# Altium integrated library C1210C103F5GACTU.IntLib: 1 symbol
Pins are listed as number, name and electrical type; pins without a type are passive.

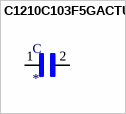
[diagram p0: symbol C1210C103F5GACTU]

## C1210C103F5GACTU
designator C
CAP, CERAMIC, 0.01UF, 50V, C0G / NP01%, 1210; Capacitance: 0.01ÂµF; Capacitance To; MP: C1210C103F5GACTU; MF: KEMET; Price: None; Package: 3225 KEMET; Value: *; Availability: Unavailable; SnapEDA_Link: https://www.snapeda.com/parts/C1210C103F5GACTU/KEMET/view-part/1757194/?ref=snap
footprint CAPC3225X120N
pins: 1, 2